# Altium footprint library PCB_Library_TM.PcbLib: 22 footprints (part 1 of 2)
Each footprint in its own frame and in the unit in brackets; x right, y up, seen from the top. Pads: shape width x height; smd on the part's side, far side on the other; paste and mask are expansions set on the pad; w line width, h text height; cw(c..) or ccw(c..) is an arc to the next point about the centre after c.
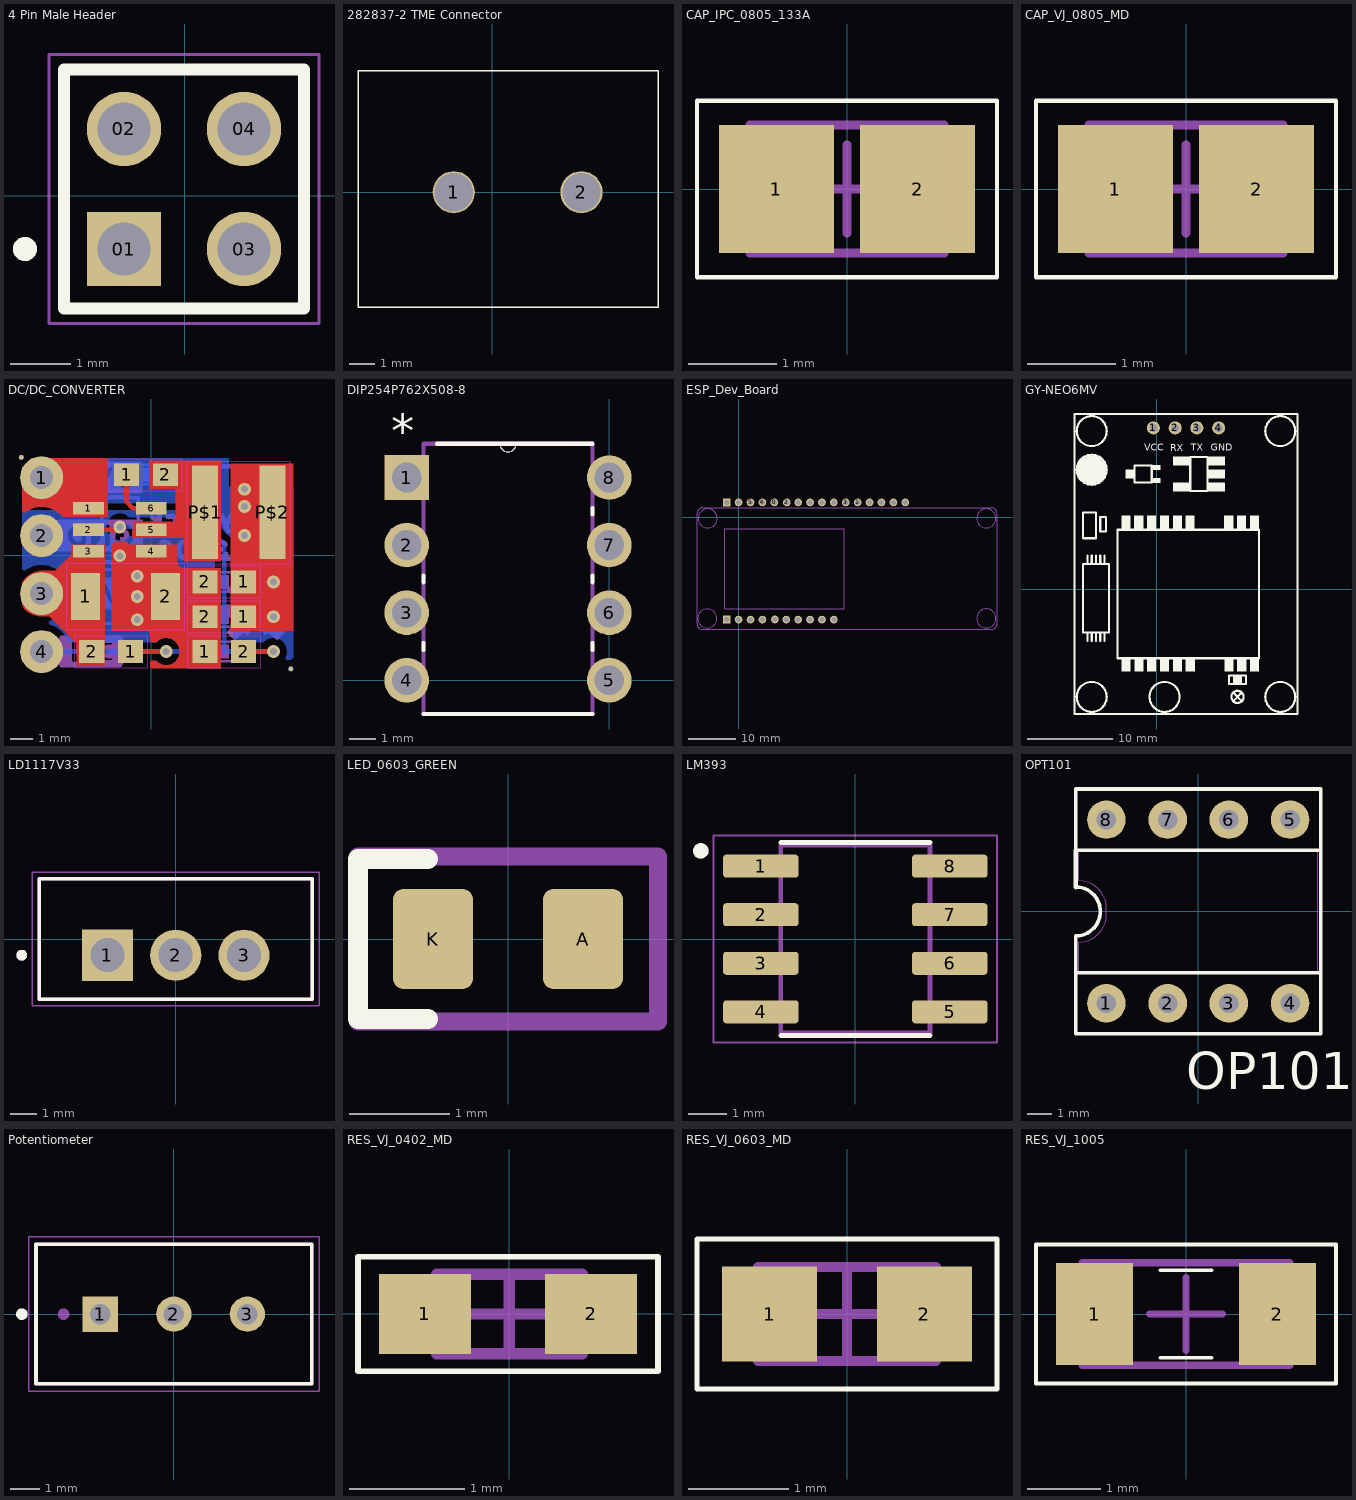
[diagram p0: the footprints below, top view; thin cyan lines are the x and y axes]

## 4 Pin Male Header [mil]
pads (4):
  rect 48.78x48.78 hole 35: 01(-40,-35)
  round 48.78 hole 35: 02(-40,43.74) 03(38.74,-35) 04(38.74,43.74)
Top Overlay:
  circle w7.87: c-104.96,-35 r3.94
  lines w7.87: -79.37,-74.17 78.11,-74.17 78.11,82.91 -79.37,82.91 -79.37,-74.17
Mechanical 13:
  circle w7.87: c-104.96,-35 r3.94
  lines w3.94: -79.37,-74.17 78.11,-74.17 78.11,82.91 -79.37,82.91 -79.37,-74.17
Mechanical 15:
  lines w1.97: -89.21,-84.02 87.95,-84.02 87.95,92.76 -89.21,92.76 -89.21,-84.02
3D body "TMMH-102-01-F-D.stp": height 205, standoff -97, extent -79.74,-74.5 77.74,82.5

## 282837-2 TME Connector [mm] "282837-2 TME Connector"
pads (2):
  round 1.65 hole 1.5 unplated: 1(-1.5,0) 2(3.5,0)
Top Overlay:
  lines w0.05: -5.25,-4.5 6.5,-4.5 6.5,4.5 6.5,4.75 -5.25,4.75 -5.25,4.5 -5.25,-4.5
3D body "282837-2.STEP": height 10, standoff -3.5, extent -4.68,-4.1 6.08,4.1

## CAP_IPC_0805_133A [mm] "Chip Capacitor, 2-Leads, 0805"
height 1.45
pads (2):
  rect 1.3x1.45 smd: 1(-0.8,0) 2(0.8,0)
Top Overlay:
  lines w0.05: -1.7,-1 1.7,-1 1.7,1 -1.7,1 -1.7,-1
Mechanical 1:
  lines w0.1: -0.5,0 0.5,0 ; 0,-0.5 0,0.5
Mechanical 13:
  lines w0.1: -1.1,-0.725 -1.1,0.725 1.1,0.725 1.1,-0.725 -1.1,-0.725
3D body: height 1.1, standoff 0, extent -0.6,-0.725 0.6,0.725
3D body: height 1.1, standoff 0, extent -1.1,-0.725 -0.6,0.725
3D body: height 1.1, standoff 0, extent 0.6,-0.725 1.1,0.725

## CAP_VJ_0805_MD [mm] "Chip Capacitor, 2-Leads, 0805"
height 1.1
pads (2):
  rect 1.3x1.45 smd: 1(-0.8,0) 2(0.8,0)
Top Overlay:
  lines w0.05: -1.7,-1 1.7,-1 1.7,1 -1.7,1 -1.7,-1
Mechanical 1:
  lines w0.1: -0.5,0 0.5,0 ; 0,-0.5 0,0.5
Mechanical 13:
  lines w0.1: -1.1,-0.725 -1.1,0.725 1.1,0.725 1.1,-0.725 -1.1,-0.725
3D body: height 1.1, standoff 0, extent -0.6,-0.725 0.6,0.725
3D body: height 1.1, standoff 0, extent -1.1,-0.725 -0.6,0.725
3D body: height 1.1, standoff 0, extent 0.6,-0.725 1.1,0.725

## DC/DC_CONVERTER [mil]
pads (28):
  rrect100% 7.87x7.87 smd paste+0 mask+0: 1(-224,169) 1(241,-196)
  rrect100% 7.87x7.87 smd far side paste+0 mask+0: 1(-224,169) 1(241,-196)
  round 74 hole 40: 1(-189,134) 2(-189,34) 3(-189,-66) 4(-189,-166)
  rect 50x81.1 smd: 1(-113.09,-71) 2(25.09,-71)
  rect 53.15x21.65 smd: 1(-108.14,81.4) 2(-108.14,44) 3(-108.14,6.6) 4(0.14,6.6) 5(0.14,44) 6(0.14,81.4)
  rect 43.31x39.37 smd: 1(-42.46,139) 1(-35.54,-166) 1(92.54,-166) 1(159.46,-106) 1(159.46,-46) 2(-102.46,-166) 2(24.46,139) 2(92.54,-106) 2(92.54,-46) 2(159.46,-166)
  rect 45x161 smd: P$1(93,74) P$2(209,74)
via -54,-1 diameter 22 hole 12
via -24,-36 diameter 22 hole 12
via -24,-71 diameter 22 hole 12
via -24,-111 diameter 22 hole 12
via 161,84 diameter 22 hole 12
via 161,34 diameter 22 hole 12
via 211,-46 diameter 22 hole 12
via 211,-106 diameter 22 hole 12
via 161,114 diameter 22 hole 12
via -54,49 diameter 22 hole 12
via 26,-166 diameter 22 hole 12
via 211,-166 diameter 22 hole 12
Top Layer:
  region: 120,-10 57,-10 57,30 -33,30 -33,39.03 -32.33,40.03 -30.55,49 -31.35,53 -27.24,58 42,58 42,115 -3,115 -3,163 120,163
  region: -80,-190 -128,-190 -128,-152.66 -175.66,-105 -193.62,-105 -200.99,-103.53 -207.93,-100.66 -214.17,-96.49 -219.49,-91.17 -222.69,-86.38 -222.69,-46.82 -219.1,-41.45 -213.55,-35.9 -207.02,-31.54 -199.77,-28.53 -192.07,-27 -165.66,-27 -138,0.66 -138,18 -80,18
  region: -76.11,107.31 -75,107.31 -75,66.83 -146.72,66.83 -146.72,66.77 -151.72,65.9 -154.05,68.95 -164.29,76.8 -176.21,81.74 -189,83.42 -201.79,81.74 -213.71,76.8 -218.2,73.36 -222.69,75.57 -222.69,153.01 -217.78,153.99 -212.51,157.51 -208.99,162.78 -208.01,167.69 -76.11,167.69
  region: 244.69,-130 137,-130 137,158 244.69,158
  region: -41.65,21.35 -37.68,18.7 -33,17.76 44.76,17.76 44.76,-10 45.7,-14.68 48.35,-18.65 52.32,-21.3 57,-22.24 120,-22.24 120,-195 -1.89,-195 -1.89,-182.31 9.24,-182.31 9.42,-182.58 17.03,-187.67 26,-189.45 34.97,-187.67 42.58,-182.58 47.67,-174.97 49.45,-166 47.67,-157.03 42.58,-149.42 34.97,-144.33 26,-142.55 17.03,-144.33 9.42,-149.42 9.24,-149.69 -1.89,-149.69 -1.89,-134.31 -3,-134.31 -3,-130 -67.76,-130 -67.76,18 -63.66,23 -42.76,23
  lines w8: -108.14,44 -59,44 -54,49 ; -42.46,139 -42.46,92.46 -31.4,81.4 0.14,81.4 ; -35.54,-166 26,-166 ; 159.46,-166 211,-166
  lines w20: 161,84 209,84 209,74
Top Layer keep-out:
  lines w2: -145.97,-128.09 -145.97,-13.91 57.97,-13.91 57.97,-128.09 -145.97,-128.09 ; -131.99,-193.56 -131.99,-138.44 -6.01,-138.44 -6.01,-193.56 -131.99,-193.56 ; -71.99,111.44 -71.99,166.56 53.99,166.56 53.99,111.44 -71.99,111.44 ; 62.5,-14.5 239.5,-14.5 239.5,162.5 62.5,162.5 62.5,-14.5 ; 63.01,-193.56 63.01,-138.44 188.99,-138.44 188.99,-193.56 63.01,-193.56 ; 63.01,-133.56 63.01,-78.44 188.99,-78.44 188.99,-133.56 63.01,-133.56 ; 63.01,-73.56 63.01,-18.44 188.99,-18.44 188.99,-73.56 63.01,-73.56
Bottom Layer:
  region: 133.9,117.91 244.69,117.91 244.69,-176.73 241,-179.75 234.78,-180.99 234.56,-181.14 230.96,-177.53 232.67,-174.97 234.45,-166 232.67,-157.03 227.58,-149.42 219.97,-144.33 211,-142.55 202.03,-144.33 194.42,-149.42 194.24,-149.69 142.31,-149.69 142.31,19 141.07,25.24 137.54,30.54 107.54,60.54 102.24,64.07 96,65.31 89.03,65.31 64.34,90 -222.69,90 -222.69,153.01 -217.78,153.99 -212.51,157.51 -208.99,162.78 -208.01,167.69 133.9,167.69
  region: 67.11,69.93 65.19,65.31 -37.24,65.31 -37.42,65.58 -45.03,70.67 -54,72.45 -62.97,70.67 -70.58,65.58 -75.67,57.97 -77.45,49 -75.67,40.03 -70.58,32.42 -62.97,27.33 -54,25.55 -45.03,27.33 -37.42,32.42 -37.24,32.69 89.24,32.69 109.69,12.24 109.69,-149.69 42.76,-149.69 42.58,-149.42 34.97,-144.33 26,-142.55 17.03,-144.33 9.42,-149.42 9.24,-149.69 -142.72,-149.69 -146.2,-141.29 -154.05,-131.05 -164.29,-123.2 -175.39,-118.6 -175.83,-116 -175.39,-113.4 -164.29,-108.8 -154.05,-100.95 -146.2,-90.71 -141.26,-78.79 -139.58,-66 -141.26,-53.21 -146.2,-41.29 -154.05,-31.05 -164.29,-23.2 -176.21,-18.26 -189,-16.58 -201.79,-18.26 -213.71,-23.2 -218.2,-26.64 -222.69,-24.43 -222.69,77.76 59.28,77.76
  lines w8: -189,-166 26,-166 126,-166 ; -54,49 96,49 126,19 126,-166 ; 211,-166 126,-166
  text "V10" at 151,169 h34
Top Solder:
  circle w6: c241,-196 r2.36
  circle w6: c-224,169 r2.36
Bottom Solder:
  circle w6: c241,-196 r2.36
  circle w6: c-224,169 r2.36
Mechanical 3:
  region: 4,120.5 4,157.9 23.69,157.9 23.69,120.5
  region: -42,120.5 -42,157.9 -22.31,157.9 -22.31,120.5
  region: 113,-87.5 113,-124.9 93.31,-124.9 93.31,-87.5
  region: 159,-87.5 159,-124.9 139.31,-124.9 139.31,-87.5
  region: 113,-27.5 113,-64.9 93.31,-64.9 93.31,-27.5
  region: 159,-27.5 159,-64.9 139.31,-64.9 139.31,-27.5
  region: -20.54,53.84 5.06,53.84 5.06,34.16 -20.54,34.16
  region: -20.54,91.24 5.06,91.24 5.06,71.56 -20.54,71.56
  region: -20.54,16.44 5.06,16.44 5.06,-3.24 -20.54,-3.24
  region: -113.06,16.44 -87.46,16.44 -87.46,-3.24 -113.06,-3.24
  region: -113.06,53.84 -87.46,53.84 -87.46,34.16 -113.06,34.16
  region: -113.06,91.24 -87.46,91.24 -87.46,71.56 -113.06,71.56
  region: -199,144 -179,144 -179,124 -199,124
  region: -199,44 -179,44 -179,24 -199,24
  region: -199,-56 -179,-56 -179,-76 -199,-76
  region: -199,-156 -179,-156 -179,-176 -199,-176
  region: -82,-147.5 -82,-184.9 -101.69,-184.9 -101.69,-147.5
  region: -36,-147.5 -36,-184.9 -55.69,-184.9 -55.69,-147.5
  region: 139,-184.5 139,-147.1 158.69,-147.1 158.69,-184.5
  region: 93,-184.5 93,-147.1 112.69,-147.1 112.69,-184.5
  lines w4: -83.02,-183.01 -54.98,-183.01 ; -83.02,-149.5 -54.98,-149.5 ; -23.02,122.5 5.02,122.5 ; -23.02,156.01 5.02,156.01 ; 111.98,-182.5 140.02,-182.5 ; 111.98,-148.99 140.02,-148.99 ; 111.98,-123.01 140.02,-123.01 ; 111.98,-89.5 140.02,-89.5 ; 111.98,-63.01 140.02,-63.01 ; 111.98,-29.5 140.02,-29.5
  lines w5: -104.49,-117.71 -104.49,-24.29 16.49,-24.29 16.49,-117.71 -104.49,-117.71 ; 72.5,-4.5 229.5,-4.5 229.5,152.5 72.5,152.5 72.5,-4.5
  lines w6: -85.5,-11.12 -22.5,-11.12 -22.5,99.12 -85.5,99.12 -85.5,-11.12
Mechanical 7:
  circle w8: c-93.37,108.96 r5.65
  lines w8: -70.91,-12 -37.09,-12 ; -70.91,100 -37.09,100 ; 124.44,-5.69 177.56,-5.69 ; 124.44,153.69 177.56,153.69
Mechanical 8:
  drawing of 22 lines, arcs and shapes, not listed
Top Glue Points:
  region: -16.87,127.19 -16.87,150.81 -1.13,150.81 -1.13,127.19
  region: 133.87,-94.19 133.87,-117.81 118.13,-117.81 118.13,-94.19
  region: 133.87,-34.19 133.87,-57.81 118.13,-57.81 118.13,-34.19
  region: -61.13,-154.19 -61.13,-177.81 -76.87,-177.81 -76.87,-154.19
  region: 118.13,-177.81 118.13,-154.19 133.87,-154.19 133.87,-177.81

## DIP254P762X508-8 [mil]
pads (8):
  rect 66x66 / inner round 66 / far side rect 66x66 hole 44: 1(-300,300)
  round 66 hole 44: 2(-300,200) 3(-300,100) 4(-300,0) 5(0,0) 6(0,100) 7(0,200) 8(0,300)
Top Overlay:
  lines w0: -162,350 ccw(c-150,350) -138,350
  lines w6: -275,-50 -25,-50 ; -275,45 -275,55 ; -275,145 -275,155 ; -255,350 -162,350 -138,350 -25,350 ; -25,45 -25,55 ; -25,145 -25,155 ; -25,245 -25,255
  text "*" at -323,344 h50
Mechanical 13:
  lines w0: -162,350 ccw(c-150,350) -138,350
  lines w6: -322,-22 -275,-22 -275,22 -322,22 -322,-22 ; -322,78 -275,78 -275,122 -322,122 -322,78 ; -322,178 -275,178 -275,222 -322,222 -322,178 ; -322,278 -275,278 -275,322 -322,322 -322,278 ; -275,-50 -275,350 -162,350 -138,350 -25,350 -25,-50 -275,-50 ; -25,-22 22,-22 22,22 -25,22 -25,-22 ; -25,78 22,78 22,122 -25,122 -25,78 ; -25,178 22,178 22,222 -25,222 -25,178 ; -25,278 22,278 22,322 -25,322 -25,278
  text "*" at -323,344 h50
3D body "step_temp.STEP": height 154.72, standoff -141.73, extent -304.92,-43.98 4.92,333.98

## ESP_Dev_Board [mm]
pads (26):
  round 1.65 hole 1.1: 0(7.62,3.156) 1(25.4,3.156) 2(10.285,3.156) 3(22.86,3.156) 4(5.08,3.156) 5(2.54,3.156) 12(15.24,3.156) 13(17.78,3.156) 14(12.7,3.156) 15(20.32,3.156) 16(0,3.156) 18(27.94,3.156) 19(30.48,3.156) 20(33.02,3.156) 21(35.56,3.156) 23(5.08,-21.844) 24(7.745,-21.819) 25(0,-21.844) 26(2.54,-21.844) 27(10.16,-21.844) 28(12.7,-21.844) 29(15.24,-21.844) 30(17.78,-21.844) 31(20.32,-21.844)
  rect 1.65x1.65 hole 1.1: 17(-2.54,3.156) 22(-2.54,-21.844)
Mechanical 1:
  circle w0.1: c-6.678,-21.612 r2.032
  circle w0.1: c52.832,-21.59 r2.032
  circle w0.1: c-6.604,-0.254 r2.032
  circle w0.1: c52.832,-0.254 r2.032
  lines w0.05: -8.873,-22.681 ccw(c-7.603,-22.681) -7.603,-23.951 53.848,-23.951 ccw(c53.848,-22.681) 55.118,-22.681 55.118,0.762 ccw(c53.848,0.762) 53.848,2.032 -7.603,2.032 ccw(c-7.603,0.762) -8.873,0.762 -8.873,-22.681 ; -3,-19.5 -3,-2.5 22.5,-2.5 22.5,-19.5 -3,-19.5
3D body "esp_w_header v3.step": height 15.4, standoff -7.26, extent -8.458,-23.489 57.242,5.537

## GY-NEO6MV [mil] "GPS Breakout Board"
pads (4):
  round 60 hole 36 paste-99999 mask+10: 1(-16.19,741.97) 2(83.81,741.97) 3(183.81,741.97) 4(283.81,741.97)
Top Overlay:
  drawing of 84 lines, arcs and shapes, not listed
  text "GND" at 247.04,636.83 h31.5
  text "TX" at 156.45,637.64 h31.5
  text "RX" at 61.96,635.67 h31.5
  text "VCC" at -59.06,637.82 h31.5
Mechanical 15:
  lines w0.1: 298.96,121.97 298.98,121.98
3D body "GY-NEO6MV2.step": height 373.38, standoff -112.08, extent -391.39,-598.57 635.39,803

## LD1117V33 [mm] "LD1117V33 - TO220"
pads (3):
  rect 1.91x1.91 / inner round 1.91 / far side rect 1.91x1.91 hole 1.27: 1(-2.55,-0.605)
  round 1.91 hole 1.27: 2(0,-0.605) 3(2.55,-0.605)
Top Overlay:
  circle w0.2: c-5.75,-0.605 r0.1
  lines w0.127: -5.1,-2.25 5.1,-2.25 5.1,2.25 -5.1,2.25 -5.1,-2.25
Mechanical 13:
  circle w0.2: c-5.75,-0.605 r0.1
  lines w0.127: -5.1,-2.25 -5.1,2.25 5.1,2.25 5.1,-2.25 -5.1,-2.25
Mechanical 15:
  lines w0.05: -5.35,-2.5 -5.35,2.5 5.35,2.5 5.35,-2.5 -5.35,-2.5
3D body "step_temp.STEP": height 19.68, standoff -9.22, extent -5.1,-2.25 5.1,2.25

## LED_0603_GREEN [mm]
pads (2):
  rrect25% 0.8x1 smd: A(0.75,0) K(-0.75,0)
Top Overlay:
  lines w0.2: -0.8,-0.8 -1.5,-0.8 -1.5,0.8 -0.8,0.8
Mechanical 13:
  lines w0.175: -1.5,-0.825 1.5,-0.825 1.5,0.825 -1.5,0.825 -1.5,-0.825
  text "'.Designator'" at -5.665,-0.417 h1
  text "+" at 1.317,0.608 h0.5
3D body "LED_0603_GREEN.step": height 0.6, standoff 0, extent -0.8,-0.4 0.8,0.4

## LM393 [mm]
pads (8):
  rrect25% 1.97x0.6 smd: 1(-2.47,1.905) 2(-2.47,0.635) 3(-2.47,-0.635) 4(-2.47,-1.905) 5(2.47,-1.905) 6(2.47,-0.635) 7(2.47,0.635) 8(2.47,1.905)
Top Overlay:
  circle w0.2: c-4.04,2.305 r0.1
  lines w0.127: -1.95,-2.525 1.95,-2.525 ; -1.95,2.525 1.95,2.525
Mechanical 13:
  circle w0.2: c-4.04,2.305 r0.1
  lines w0.127: -1.95,-2.452 1.95,-2.452 1.95,2.452 -1.95,2.452 -1.95,-2.452
Mechanical 15:
  lines w0.05: -3.705,-2.702 3.705,-2.702 3.705,2.702 -3.705,2.702 -3.705,-2.702
3D body "step_temp.STEP": height 1.75, standoff 0, extent -3,-2.45 3,2.45

## OPT101 [mil]
pads (8):
  round 63 hole 32: 1(-150,-150) 2(-50,-150) 3(50,-150) 4(150,-150) 5(150,150) 6(50,150) 7(-50,150) 8(-150,150)
Top Overlay:
  lines w6: -200,40 cw(c-200,0) -200,-40 -200,-100 ; -200,-100 200,-100 ; -200,-100 -200,-200 200,-200 200,-100 ; 200,-100 200,100 ; 200,100 -200,100 -200,200 200,200 200,100
  lines w8: -200,40 -200,100
  text "OP101" at -20,-290 h60
Mechanical 1:
  lines w1.97: -195,-100 195,-100 195,100 -195,100 -195,50 cw(c-195,5) -150,5 -150,-5 cw(c-195,-5) -195,-50 -195,-100
3D body: height 62.99, standoff 0, extent -195.98,-100.98 195.98,100.98
3D body: height 39.37, standoff 0, extent -199.98,-199.98 199.98,-100.02
3D body: height 39.37, standoff 0, extent -199.98,100.02 199.98,199.98

## Potentiometer [mm]
pads (3):
  rect 1.218x1.218 / inner round 1.218 / far side rect 1.218x1.218 hole 0.71: 1(-2.54,0)
  round 1.218 hole 0.71: 2(0,0) 3(2.54,0)
Top Overlay:
  circle w0.2: c-5.25,0 r0.1
  lines w0.127: -4.765,-2.41 -4.765,2.42 4.765,2.42 4.765,-2.41 -4.765,-2.41
Mechanical 13:
  circle w0.2: c-3.81,0 r0.1
  lines w0.127: -4.765,-2.41 4.765,-2.41 4.765,2.42 -4.765,2.42 -4.765,-2.41
Mechanical 15:
  lines w0.05: -5.015,-2.66 5.015,-2.66 5.015,2.67 -5.015,2.67 -5.015,-2.66
3D body "step_temp.STEP": height 11.55, standoff -7.72, extent -4.765,-2.41 4.765,2.42

## RES_VJ_0402_MD [mm] "Chip Resistor, 2-Leads, 0402, Medium Density"
height 1.15
pads (2):
  rect 0.8x0.7 smd: 1(-0.737,0) 2(0.711,0)
Top Overlay:
  lines w0.05: -1.321,-0.5 -1.321,0.5 1.295,0.5 1.295,-0.5 -1.321,-0.5
Mechanical 1:
  lines w0.1: -0.345,0 0.345,0 ; 0,-0.345 0,0.345
Mechanical 13:
  lines w0.1: -0.635,-0.345 0.635,-0.345 0.635,0.345 -0.635,0.345 -0.635,-0.345
3D body: height 0.5, standoff 0, extent 0.385,-0.345 0.635,0.345
3D body: height 0.5, standoff 0, extent -0.635,-0.345 -0.385,0.345
3D body: height 0.5, standoff 0, extent -0.385,-0.345 0.385,0.345

## RES_VJ_0603_MD [mm] "Chip Resistor, 2-Leads, 0603, Medium Density"
height 0.51
pads (2):
  rect 0.95x0.95 smd: 1(-0.775,0) 2(0.775,0)
Top Overlay:
  lines w0.05: -1.5,-0.75 -1.5,0.75 1.5,0.75 1.5,-0.75 -1.5,-0.75
Mechanical 1:
  lines w0.1: -0.47,0 0.47,0 ; 0,-0.47 0,0.47
Mechanical 13:
  lines w0.1: -0.89,-0.47 0.89,-0.47 0.89,0.47 -0.89,0.47 -0.89,-0.47
3D body: height 0.51, standoff 0, extent 0.59,-0.47 0.89,0.47
3D body: height 0.51, standoff 0, extent -0.89,-0.47 -0.59,0.47
3D body: height 0.51, standoff 0, extent -0.59,-0.47 0.59,0.47

## RES_VJ_1005 [mm] "Chip Resistor, 2-Leads, 1005, Medium Density"
height 0.51
pads (2):
  rect 1.05x1.4 smd: 1(-1.25,0) 2(1.25,0)
Top Overlay:
  lines w0.05: -0.35,-0.6 0.35,-0.6 ; -0.35,0.6 0.35,0.6 ; -2.05,-0.95 -2.05,0.95 2.05,0.95 2.05,-0.95 -2.05,-0.95
Mechanical 1:
  lines w0.1: -0.5,0 0.5,0 ; 0,-0.5 0,0.5
Mechanical 13:
  lines w0.1: -1.42,-0.7 -1.42,0.7 -0.71,0.7 0.71,0.7 1.42,0.7
  lines w0.102: -1.42,-0.7 1.42,-0.7 1.42,-0.35 1.42,0.35 1.42,0.7
3D body: height 0.51, standoff 0, extent -1.04,-0.7 1.04,0.7
3D body: height 0.51, standoff 0, extent -1.42,-0.7 -1.04,0.7
3D body: height 0.51, standoff 0, extent 1.04,-0.7 1.42,0.7